# Altium footprint library PCB - CONNECTOR -TE - TE 282837-3.PcbLib: 1 footprints
Each footprint in its own frame and in the unit in brackets; x right, y up, seen from the top. Pads: shape width x height; smd on the part's side, far side on the other; paste and mask are expansions set on the pad; w line width, h text height; cw(c..) or ccw(c..) is an arc to the next point about the centre after c.
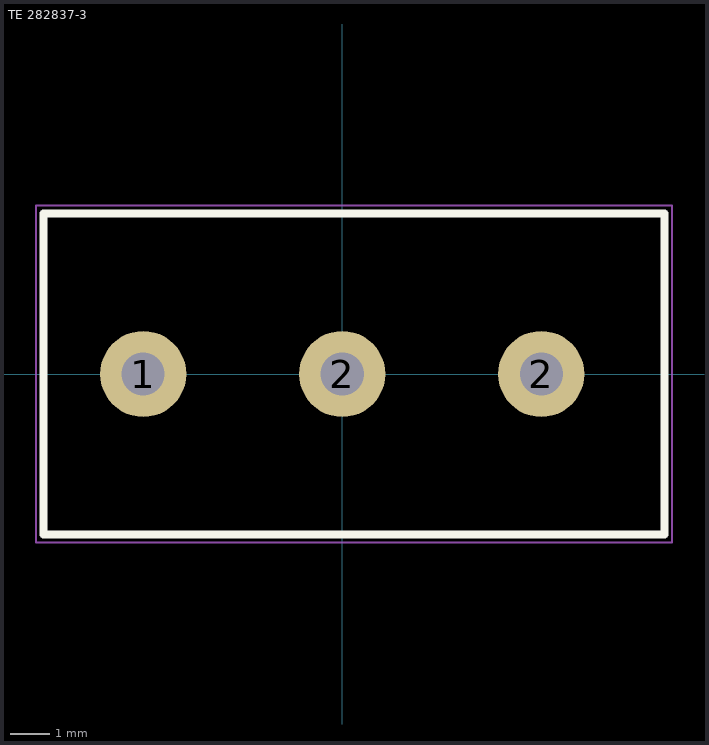
[diagram p0: the footprint, top view; thin cyan lines are the x and y axes]

## TE 282837-3 [mm] "Wire to Board Terminal Block Horizontal with Board, 3 Postions, Body 15.84x8.2mm, Pitch 5.08mm"
height 10.3
pads (3):
  round 2.2 hole 1.1: 1(-5.08,0) 2(0,0) 2(5.08,0)
Top Overlay:
  lines w0.2: -7.62,-4.1 8.22,-4.1 8.22,4.1 -7.62,4.1 -7.62,-4.1
Mechanical 13:
  lines w0.1: -7.62,-4.1 8.22,-4.1 8.22,4.1 -7.62,4.1 -7.62,-4.1
Mechanical 15 (Mech15):
  lines w0.05: -7.82,-4.3 -7.82,4.3 8.42,4.3 8.42,-4.3 -7.82,-4.3
  lines w0.1: -0.508,0 0,0 ; 0,-0.508 0,0 ; 0,0.508 0,0 ; 0.508,0 0,0
3D body "TE - 282837-3.stp": height 10.3, standoff -3.8, extent -7.62,-4.1 8.22,4.1